# EAGLE library part SI7288DP (library RAFT-components)
Trans MOSFET N-CH 40V 10An Vishay SI7288DP-T1-GE3 Dual N-channel MOSFET Transistor, 20 A, 40 V, 8-Pin PowerPAK SO Source: Datasheet <https://www.vishay.com/docs/65366/si7288dp.pdf>
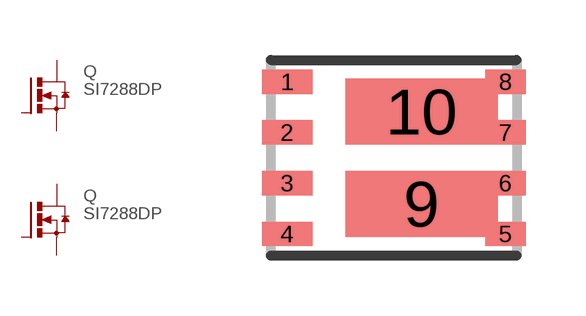
[diagram p0: symbol with the pads of POWERPAK-SO8_1; footprint POWERPAK-SO8_1]

Designator prefix Q

## SI7288DP (ALLIED_NUMBER: 70459563; ALLIED_PRICE-STOCK: https://www.alliedelec.com/siliconix-vishay-si7288dp-t1-ge3/70459563/; DESCRIPTION: Trans MOSFET N-CH 40V 10An Vishay SI7288DP-T1-GE3 Dual N-channel MOSFET Transistor, 20 A, 40 V, 8-Pin PowerPAK SO; HEIGHT: mm; MANUFACTURER_NAME: Vishay; MANUFACTURER_PART_NUMBER: SI7288DP-T1-GE3; MOUSER_PART_NUMBER: 781-SI7288DP-T1-GE3; MOUSER_PRICE-STOCK: https://www.mouser.com/Search/Refine.aspx?Keyword=781-SI7288DP-T1-GE3; RS_PART_NUMBER: 8181390P; RS_PRICE-STOCK: http://uk.rs-online.com/web/p/products/8181390P)  [POWERPAK-SO8_1]
1  S  pas
2  G  pas
3  S1  pas
4  G1  pas
5  D1  pas
6  D1  pas
7  D  pas
8  D  pas

## Footprint POWERPAK-SO8_1 (pad centres in mm)
PowerPAK-SO8_1
smd 1.27 x 0.61: 1 -2.67,1.905; 2 -2.67,0.635; 3 -2.67,-0.635; 4 -2.67,-1.905
smd 1.02 x 0.61: 5 2.795,-1.905; 6 2.795,-0.635; 7 2.795,0.635; 8 2.795,1.905
smd 3.81 x 1.65: 9 0.69,-1.155; 10 0.69,1.155